# Altium integrated library APX812-29UG-7.IntLib: 1 symbol
Pins are listed as number, name and electrical type; pins without a type are passive.

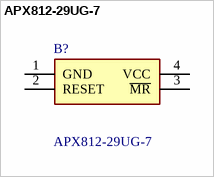
[diagram p0: symbol APX812-29UG-7]

## APX812-29UG-7
designator B?
Supervisor Push-Pull, Totem Pole 1 Channel SOT-143 , 2.93V , 140ms , -40C ~ 85C (TA); Manufacturer_Name: Diodes Incorporated; Geometry.Height: 1.1mm; Farnell Part Number: *; Farnell Price/Stock: *; Manufacturer_Part_Number: APX812-29UG-7; Datasheet Link: https://www.diodes.com//assets/Datasheets/APX811_812.pdf
footprint APX81229UG7
pins: 1 GND, 2 RESET, 3 ~{MR}, 4 VCC